# EAGLE library part MMA8652FC (library archived)
Freescale MMA8652FC 3-axis accelerometer
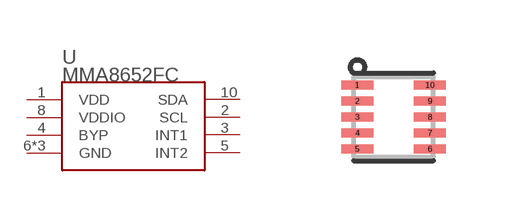
[diagram p16: symbol with the pads of DFN-10; footprint DFN-10]

Designator prefix -

## MMA8652FC  [DFN-10]
1  VDD
2  SCL
3  INT1
4  BYP
5  INT2
6  GND
7  GND
8  VDDIO
9  GND
10  SDA

## Footprint DFN-10 (pad centres in mm)
10-pin DFN, 2mm x 2mm x 0.85mm
smd 0.8 x 0.22: 1 -0.91,0.8; 2 -0.91,0.4; 3 -0.91,0; 4 -0.91,-0.4; 5 -0.91,-0.8; 6 0.91,-0.8; 7 0.91,-0.4; 8 0.91,0; 9 0.91,0.4; 10 0.91,0.8